# Altium integrated library TI Amplifiers and Linear Operational Amplifier Precision Amplifier Part Two.IntLib: 2300 symbols (part 48 of 81)
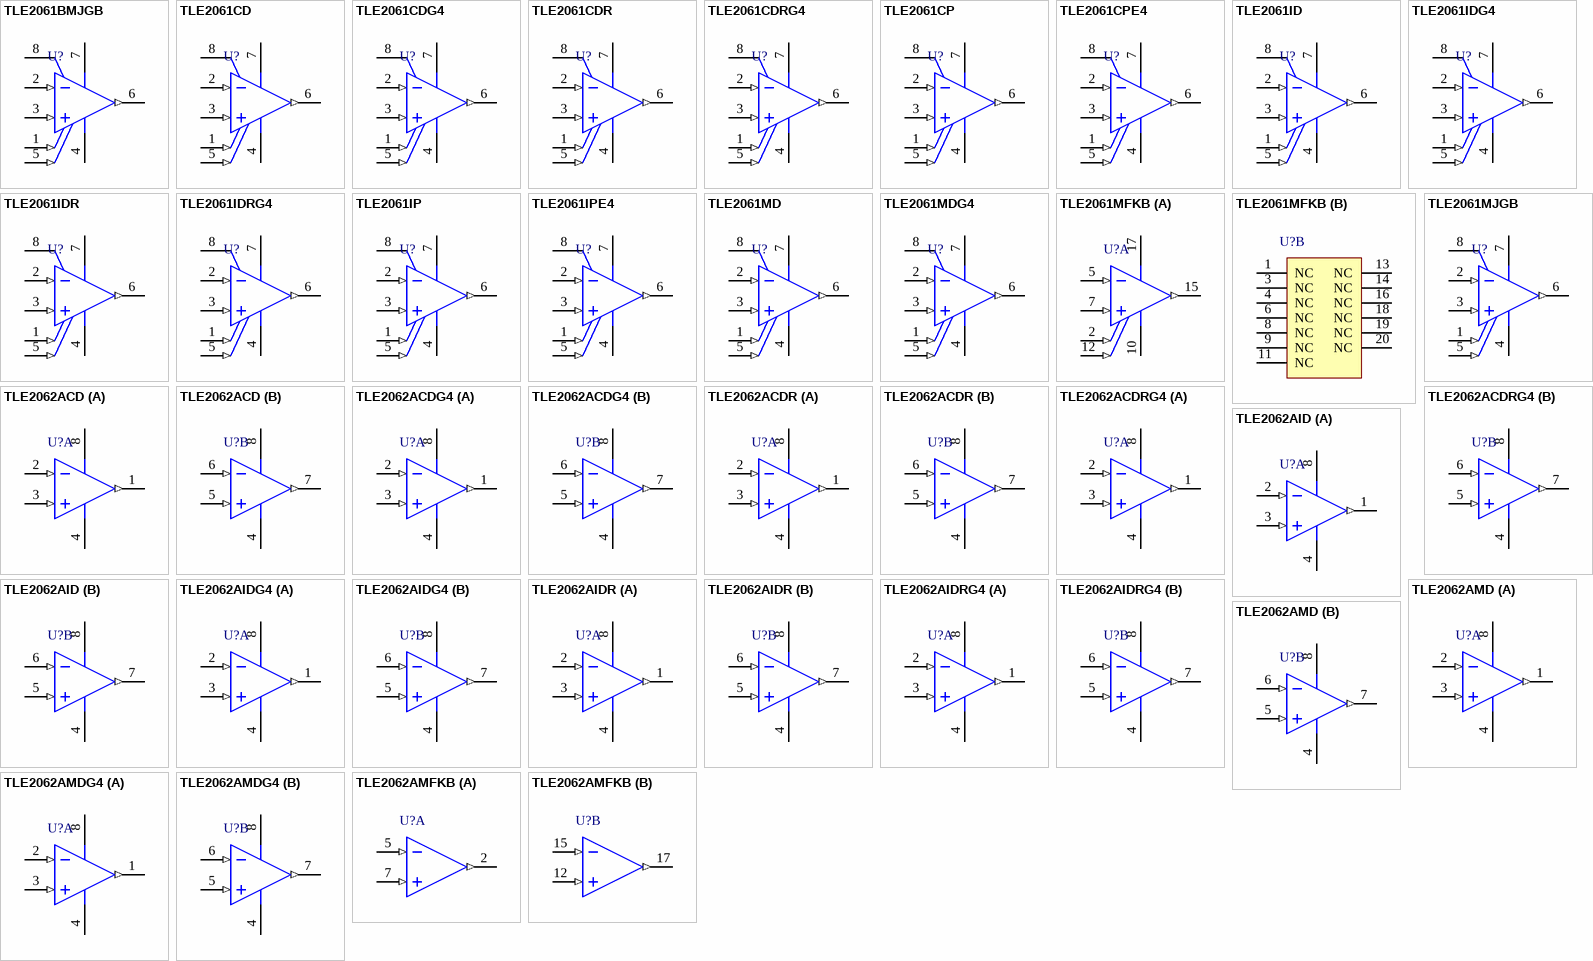
[diagram p183: symbols TLE2061BMJGB to TLE2062AMFKB]

## TLE2061IP
designator U?
JFET-Input High-Output-Drive uPower Operational Amplifier, 7 to 36 V, -40 to 85 degC, 8-pin DIP (P8), Pb-Free (RoHS); Manufacturer: Texas Instruments; PartNumber: TLE2061IP; CMRR(Min)(dB): 65; GBW(Typ)(MHz): 1.8; IIB(Max)(pA): 4000; Iq per channel(Max)(mA): 0.325; Number of Channels: 1; Offset Drift(Typ)(uV/C): 6; Packing: TUBE; Rating: Catalog; Slew Rate(Typ)(V/us): 3.4; Sub Family: High Supply Voltage Amplifier (>=30V), Low Power Amp (<=500uA), Precision Amplifier; Total Supply Voltage(Max)(+5V is 5, +/-5V is 10): 36; Total Supply Voltage(Min)(+5V is 5, +/-5V is 10): 7; Vio (25C)(Max)(mV): 3.1; DatasheetVersion: SLOS193B; PackageVersion: 4040082/E, 04/2010; PackageReference: P8; PackageDescription: 8-Pin Plastic In-Line, Body 9.59 x 6.35 mm, Pitch 2.54 mm; Supplier 1: Digi-Key; Supplier Part Number 1: 296-34391-5-ND; Supplier 2: Farnell; Supplier Part Number 2: 1102947; Supplier 3: Newark; Supplier Part Number 3: 24M8306; Supplier 4: Mouser; Supplier Part Number 4: 595-TLE2061IP; Eco-Plan: Pb-Free (RoHS); Mounting Technology: Through Hole; Code_JEDEC: MS-001; ComponentLink1Description: Manufacturer URL; ComponentLink1URL: http://www.ti.com/; ComponentLink2Description: Datasheet; ComponentLink2URL: http://www.ti.com/lit/ds/symlink/tle2061.pdf; ComponentLink3Description: Package Specification; ComponentLink3URL: http://www.ti.com/litv/pdf/mpdi001b
footprint TI-P8 (DIP, 8-Leads, Body 9.59x6.35mm, Pitch 2.54mm)
pins: 1 OFFSET N1 (in), 2 IN- (in), 3 IN+ (in), 4 VCC- (power), 5 OFFSET N2 (in), 6 OUT (out), 7 VCC+ (power), 8 NC

## TLE2061IPE4
designator U?
JFET-Input High-Output-Drive uPower Operational Amplifier, 7 to 36 V, -40 to 85 degC, 8-pin DIP (P8), Pb-Free (RoHS); Manufacturer: Texas Instruments; PartNumber: TLE2061IPE4; CMRR(Min)(dB): 65; GBW(Typ)(MHz): 1.8; IIB(Max)(pA): 4000; Iq per channel(Max)(mA): 0.325; Number of Channels: 1; Offset Drift(Typ)(uV/C): 6; Packing: TUBE; Rating: Catalog; Slew Rate(Typ)(V/us): 3.4; Sub Family: High Supply Voltage Amplifier (>=30V), Low Power Amp (<=500uA), Precision Amplifier; Total Supply Voltage(Max)(+5V is 5, +/-5V is 10): 36; Total Supply Voltage(Min)(+5V is 5, +/-5V is 10): 7; Vio (25C)(Max)(mV): 3.1; DatasheetVersion: SLOS193B; PackageVersion: 4040082/E, 04/2010; PackageReference: P8; PackageDescription: 8-Pin Plastic In-Line, Body 9.59 x 6.35 mm, Pitch 2.54 mm; Supplier 1: Digi-Key; Supplier Part Number 1: TLE2061IPE4-ND; Supplier 2: Mouser; Supplier Part Number 2: 595-TLE2061IPE4; Eco-Plan: Pb-Free (RoHS); Mounting Technology: Through Hole; Code_JEDEC: MS-001; ComponentLink1Description: Manufacturer URL; ComponentLink1URL: http://www.ti.com/; ComponentLink2Description: Datasheet; ComponentLink2URL: http://www.ti.com/lit/ds/symlink/tle2061.pdf; ComponentLink3Description: Package Specification; ComponentLink3URL: http://www.ti.com/litv/pdf/mpdi001b
footprint TI-P8 (DIP, 8-Leads, Body 9.59x6.35mm, Pitch 2.54mm)
pins: 1 OFFSET N1 (in), 2 IN- (in), 3 IN+ (in), 4 VCC- (power), 5 OFFSET N2 (in), 6 OUT (out), 7 VCC+ (power), 8 NC

## TLE2061MD
designator U?
JFET-Input Low Power High Drive Single Operational Amplifier, 7 to 36 V, -55 to 125 degC, 8-pin SOIC (D8), Green (RoHS & no Sb/Br); Manufacturer: Texas Instruments; PartNumber: TLE2061MD; CMRR(Min)(dB): 65; GBW(Typ)(MHz): 1.8; IIB(Max)(pA): 30000; Iq per channel(Max)(mA): 0.325; Number of Channels: 1; Offset Drift(Typ)(uV/C): 6; Packing: SMALL T&R; Rating: Military; Slew Rate(Typ)(V/us): 3.4; Sub Family: High Supply Voltage Amplifier (>=30V), Low Power Amp (<=500uA), Precision Amplifier; Total Supply Voltage(Max)(+5V is 5, +/-5V is 10): 36; Total Supply Voltage(Min)(+5V is 5, +/-5V is 10): 7; Vio (25C)(Max)(mV): 3.1; DatasheetVersion: SLOS193B; PackageVersion: 4040047-3/M, 06/2011; PackageReference: D8; PackageDescription: 8-Pin Plastic Small Outline, Body 4.9 x 3.9 mm, Pitch 1.27 mm; Supplier 1: Digi-Key; Supplier Part Number 1: 296-10395-5-ND; Supplier 2: Newark; Supplier Part Number 2: 76C7620; Supplier 3: Mouser; Supplier Part Number 3: 595-TLE2061MD; Eco-Plan: Green (RoHS & no Sb/Br); Mounting Technology: Surface Mount; Code_JEDEC: MS-012; ComponentLink1Description: Manufacturer URL; ComponentLink1URL: http://www.ti.com/; ComponentLink2Description: Datasheet; ComponentLink2URL: http://www.ti.com/lit/ds/symlink/tle2061m.pdf; ComponentLink3Description: Package Specification; ComponentLink3URL: http://www.ti.com/litv/pdf/msoi002j
footprint TI-D8_N (SOIC, 8-Leads, Body 4.9x3.9mm, Pitch 1.27mm, IPC Medium Density)
footprint TI-D8_L (SOIC, 8-Leads, Body 4.9x3.9mm, Pitch 1.27mm, IPC High Density)
footprint TI-D8_M (SOIC, 8-Leads, Body 4.9x3.9mm, Pitch 1.27mm, IPC Low Density)
pins: 1 OFFSET N1 (in), 2 IN- (in), 3 IN+ (in), 4 VCC- (power), 5 OFFSET N2 (in), 6 OUT (out), 7 VCC+ (power), 8 NC

## TLE2061MDG4
designator U?
JFET-Input Low Power High Drive Single Operational Amplifier, 7 to 36 V, -55 to 125 degC, 8-pin SOIC (D8), Green (RoHS & no Sb/Br); Manufacturer: Texas Instruments; PartNumber: TLE2061MDG4; CMRR(Min)(dB): 65; GBW(Typ)(MHz): 1.8; IIB(Max)(pA): 30000; Iq per channel(Max)(mA): 0.325; Number of Channels: 1; Offset Drift(Typ)(uV/C): 6; Packing: SMALL T&R; Rating: Military; Slew Rate(Typ)(V/us): 3.4; Sub Family: High Supply Voltage Amplifier (>=30V), Low Power Amp (<=500uA), Precision Amplifier; Total Supply Voltage(Max)(+5V is 5, +/-5V is 10): 36; Total Supply Voltage(Min)(+5V is 5, +/-5V is 10): 7; Vio (25C)(Max)(mV): 3.1; DatasheetVersion: SLOS193B; PackageVersion: 4040047-3/M, 06/2011; PackageReference: D8; PackageDescription: 8-Pin Plastic Small Outline, Body 4.9 x 3.9 mm, Pitch 1.27 mm; Supplier 1: Digi-Key; Supplier Part Number 1: TLE2061MDG4-ND; Supplier 2: Newark; Supplier Part Number 2: 50M9025; Supplier 3: Mouser; Supplier Part Number 3: 595-TLE2061MDG4; Eco-Plan: Green (RoHS & no Sb/Br); Mounting Technology: Surface Mount; Code_JEDEC: MS-012; ComponentLink1Description: Manufacturer URL; ComponentLink1URL: http://www.ti.com/; ComponentLink2Description: Datasheet; ComponentLink2URL: http://www.ti.com/lit/ds/symlink/tle2061m.pdf; ComponentLink3Description: Package Specification; ComponentLink3URL: http://www.ti.com/litv/pdf/msoi002j
footprint TI-D8_N (SOIC, 8-Leads, Body 4.9x3.9mm, Pitch 1.27mm, IPC Medium Density)
footprint TI-D8_L (SOIC, 8-Leads, Body 4.9x3.9mm, Pitch 1.27mm, IPC High Density)
footprint TI-D8_M (SOIC, 8-Leads, Body 4.9x3.9mm, Pitch 1.27mm, IPC Low Density)
pins: 1 OFFSET N1 (in), 2 IN- (in), 3 IN+ (in), 4 VCC- (power), 5 OFFSET N2 (in), 6 OUT (out), 7 VCC+ (power), 8 NC

## TLE2061MFKB
designator U?
JFET-Input Low Power High Drive Single Operational Amplifier, 7 to 36 V, -55 to 125 degC, 20-pin LCC (FK20); Manufacturer: Texas Instruments; PartNumber: TLE2061MFKB; CMRR(Min)(dB): 65; GBW(Typ)(MHz): 1.8; IIB(Max)(pA): 30000; Iq per channel(Max)(mA): 0.325; Number of Channels: 1; Offset Drift(Typ)(uV/C): 6; Packing: TUBE; Rating: Military; Slew Rate(Typ)(V/us): 3.4; Sub Family: High Supply Voltage Amplifier (>=30V), Low Power Amp (<=500uA), Precision Amplifier; Total Supply Voltage(Max)(+5V is 5, +/-5V is 10): 36; Total Supply Voltage(Min)(+5V is 5, +/-5V is 10): 7; Vio (25C)(Max)(mV): 3.1; DatasheetVersion: SLOS193B; PackageVersion: 4040140/D, 01/2011; PackageReference: FK20; PackageDescription: 20-Pin Ceramic, Metal Chip Carrier, Body 8.89 x 8.89 mm, Pitch 1.27 mm; Mounting Technology: Surface Mount; Code_JEDEC: MS-004; ComponentLink1Description: Manufacturer URL; ComponentLink1URL: http://www.ti.com/; ComponentLink2Description: Datasheet; ComponentLink2URL: http://www.ti.com/lit/ds/symlink/tle2061m.pdf; ComponentLink3Description: Package Specification; ComponentLink3URL: http://www.ti.com/litv/pdf/mlcc006d
footprint TI-FK20_N (Leadless Chip Carrier, 20-Leads, Body 8.9x8.9mm, Pitch 1.27mm, IPC Medium Density)
footprint TI-FK20_L (Leadless Chip Carrier, 20-Leads, Body 8.9x8.9mm, Pitch 1.27mm, IPC High Density)
footprint TI-FK20_M (Leadless Chip Carrier, 20-Leads, Body 8.9x8.9mm, Pitch 1.27mm, IPC Low Density)
part A pins: 2 OFFSET N1 (in), 5 IN- (in), 7 IN+ (in), 10 VCC- (power), 12 OFFSET N2 (in), 15 OUT (out), 17 VCC+ (power)
part B pins: 1 NC, 3 NC, 4 NC, 6 NC, 8 NC, 9 NC, 11 NC, 13 NC, 14 NC, 16 NC, 18 NC, 19 NC, 20 NC

## TLE2061MJGB
designator U?
JFET-Input Low Power High Drive Single Operational Amplifier, 7 to 36 V, -55 to 125 degC, 8-pin DIP (JG8); Manufacturer: Texas Instruments; PartNumber: TLE2061MJGB; CMRR(Min)(dB): 65; GBW(Typ)(MHz): 1.8; IIB(Max)(pA): 30000; Iq per channel(Max)(mA): 0.325; Number of Channels: 1; Offset Drift(Typ)(uV/C): 6; Packing: TUBE; Rating: Military; Slew Rate(Typ)(V/us): 3.4; Sub Family: High Supply Voltage Amplifier (>=30V), Low Power Amp (<=500uA), Precision Amplifier; Total Supply Voltage(Max)(+5V is 5, +/-5V is 10): 36; Total Supply Voltage(Min)(+5V is 5, +/-5V is 10): 7; Vio (25C)(Max)(mV): 3.1; DatasheetVersion: SLOS193B; PackageVersion: 4040107/C, 08/1996; PackageReference: JG8; PackageDescription: 8-Pin Ceramic, Glass In-Line, Body 9.58 x 6.665 mm, Pitch 2.54 mm; Mounting Technology: Through Hole; ComponentLink1Description: Manufacturer URL; ComponentLink1URL: http://www.ti.com/; ComponentLink2Description: Datasheet; ComponentLink2URL: http://www.ti.com/lit/ds/symlink/tle2061m.pdf; ComponentLink3Description: Package Specification; ComponentLink3URL: http://www.ti.com/litv/pdf/mcer001a
footprint TI-JG8 (DIP, 8-Leads, Body 10.15x7.1mm, Pitch 2.54mm)
pins: 1 OFFSET N1 (in), 2 IN- (in), 3 IN+ (in), 4 VCC- (power), 5 OFFSET N2 (in), 6 OUT (out), 7 VCC+ (power), 8 NC

## TLE2062ACD
designator U?
Excalibur JFET-Input High-Output-Drive uPower Dual Operational Amplifier, 7 to 36 V, 0 to 70 degC, 8-pin SOIC (D8), Green (RoHS & no Sb/Br); Manufacturer: Texas Instruments; PartNumber: TLE2062ACD; CMRR(Min)(dB): 65; GBW(Typ)(MHz): 1.8; IIB(Max)(pA): 2000; Iq per channel(Max)(mA): 0.31; Number of Channels: 2; Offset Drift(Typ)(uV/C): 6; Packing: TUBE; Rating: Catalog; Slew Rate(Typ)(V/us): 3.4; Sub Family: High Supply Voltage Amplifier (>=30V), Low Power Amp (<=500uA), Precision Amplifier; Total Supply Voltage(Max)(+5V is 5, +/-5V is 10): 36; Total Supply Voltage(Min)(+5V is 5, +/-5V is 10): 7; Vio (25C)(Max)(mV): 4; DatasheetVersion: SLOS193B; PackageVersion: 4040047-3/M, 06/2011; PackageReference: D8; PackageDescription: 8-Pin Plastic Small Outline, Body 4.9 x 3.9 mm, Pitch 1.27 mm; Supplier 1: Digi-Key; Supplier Part Number 1: 296-10396-5-ND; Supplier 2: Newark; Supplier Part Number 2: 67K1267; Supplier 3: Mouser; Supplier Part Number 3: 595-TLE2062ACD; Eco-Plan: Green (RoHS & no Sb/Br); Mounting Technology: Surface Mount; Code_JEDEC: MS-012; ComponentLink1Description: Manufacturer URL; ComponentLink1URL: http://www.ti.com/; ComponentLink2Description: Datasheet; ComponentLink2URL: http://www.ti.com/lit/ds/symlink/tle2062a.pdf; ComponentLink3Description: Package Specification; ComponentLink3URL: http://www.ti.com/litv/pdf/msoi002j
footprint TI-D8_N (SOIC, 8-Leads, Body 4.9x3.9mm, Pitch 1.27mm, IPC Medium Density)
footprint TI-D8_L (SOIC, 8-Leads, Body 4.9x3.9mm, Pitch 1.27mm, IPC High Density)
footprint TI-D8_M (SOIC, 8-Leads, Body 4.9x3.9mm, Pitch 1.27mm, IPC Low Density)
pins on every part: 4 VCC- (power), 8 VCC+ (power)
part A pins: 1 OUT1 (out), 2 IN1- (in), 3 IN1+ (in)
part B pins: 5 IN2+ (in), 6 IN2- (in), 7 OUT2 (out)

## TLE2062ACDG4
designator U?
Excalibur JFET-Input High-Output-Drive uPower Dual Operational Amplifier, 7 to 36 V, 0 to 70 degC, 8-pin SOIC (D8), Green (RoHS & no Sb/Br); Manufacturer: Texas Instruments; PartNumber: TLE2062ACDG4; CMRR(Min)(dB): 65; GBW(Typ)(MHz): 1.8; IIB(Max)(pA): 2000; Iq per channel(Max)(mA): 0.31; Number of Channels: 2; Offset Drift(Typ)(uV/C): 6; Packing: TUBE; Rating: Catalog; Slew Rate(Typ)(V/us): 3.4; Sub Family: High Supply Voltage Amplifier (>=30V), Low Power Amp (<=500uA), Precision Amplifier; Total Supply Voltage(Max)(+5V is 5, +/-5V is 10): 36; Total Supply Voltage(Min)(+5V is 5, +/-5V is 10): 7; Vio (25C)(Max)(mV): 4; DatasheetVersion: SLOS193B; PackageVersion: 4040047-3/M, 06/2011; PackageReference: D8; PackageDescription: 8-Pin Plastic Small Outline, Body 4.9 x 3.9 mm, Pitch 1.27 mm; Supplier 1: Digi-Key; Supplier Part Number 1: TLE2062ACDG4-ND; Supplier 2: Farnell; Supplier Part Number 2: 1234963; Supplier 3: Newark; Supplier Part Number 3: 13M3163; Supplier 4: Mouser; Supplier Part Number 4: 595-TLE2062ACDG4; Eco-Plan: Green (RoHS & no Sb/Br); Mounting Technology: Surface Mount; Code_JEDEC: MS-012; ComponentLink1Description: Manufacturer URL; ComponentLink1URL: http://www.ti.com/; ComponentLink2Description: Datasheet; ComponentLink2URL: http://www.ti.com/lit/ds/symlink/tle2062a.pdf; ComponentLink3Description: Package Specification; ComponentLink3URL: http://www.ti.com/litv/pdf/msoi002j
footprint TI-D8_N (SOIC, 8-Leads, Body 4.9x3.9mm, Pitch 1.27mm, IPC Medium Density)
footprint TI-D8_L (SOIC, 8-Leads, Body 4.9x3.9mm, Pitch 1.27mm, IPC High Density)
footprint TI-D8_M (SOIC, 8-Leads, Body 4.9x3.9mm, Pitch 1.27mm, IPC Low Density)
pins on every part: 4 VCC- (power), 8 VCC+ (power)
part A pins: 1 OUT1 (out), 2 IN1- (in), 3 IN1+ (in)
part B pins: 5 IN2+ (in), 6 IN2- (in), 7 OUT2 (out)

## TLE2062ACDR
designator U?
Excalibur JFET-Input High-Output-Drive uPower Dual Operational Amplifier, 7 to 36 V, 0 to 70 degC, 8-pin SOIC (D8), Green (RoHS & no Sb/Br); Manufacturer: Texas Instruments; PartNumber: TLE2062ACDR; CMRR(Min)(dB): 65; GBW(Typ)(MHz): 1.8; IIB(Max)(pA): 2000; Iq per channel(Max)(mA): 0.31; Number of Channels: 2; Offset Drift(Typ)(uV/C): 6; Packing: LARGE T&R; Rating: Catalog; Slew Rate(Typ)(V/us): 3.4; Sub Family: High Supply Voltage Amplifier (>=30V), Low Power Amp (<=500uA), Precision Amplifier; Total Supply Voltage(Max)(+5V is 5, +/-5V is 10): 36; Total Supply Voltage(Min)(+5V is 5, +/-5V is 10): 7; Vio (25C)(Max)(mV): 4; DatasheetVersion: SLOS193B; PackageVersion: 4040047-3/M, 06/2011; PackageReference: D8; PackageDescription: 8-Pin Plastic Small Outline, Body 4.9 x 3.9 mm, Pitch 1.27 mm; Supplier 1: Digi-Key; Supplier Part Number 1: TLE2062ACDR-ND; Supplier 2: Mouser; Supplier Part Number 2: 595-TLE2062ACDR; Eco-Plan: Green (RoHS & no Sb/Br); Mounting Technology: Surface Mount; Code_JEDEC: MS-012; ComponentLink1Description: Manufacturer URL; ComponentLink1URL: http://www.ti.com/; ComponentLink2Description: Datasheet; ComponentLink2URL: http://www.ti.com/lit/ds/symlink/tle2062a.pdf; ComponentLink3Description: Package Specification; ComponentLink3URL: http://www.ti.com/litv/pdf/msoi002j
footprint TI-D8_N (SOIC, 8-Leads, Body 4.9x3.9mm, Pitch 1.27mm, IPC Medium Density)
footprint TI-D8_L (SOIC, 8-Leads, Body 4.9x3.9mm, Pitch 1.27mm, IPC High Density)
footprint TI-D8_M (SOIC, 8-Leads, Body 4.9x3.9mm, Pitch 1.27mm, IPC Low Density)
pins on every part: 4 VCC- (power), 8 VCC+ (power)
part A pins: 1 OUT1 (out), 2 IN1- (in), 3 IN1+ (in)
part B pins: 5 IN2+ (in), 6 IN2- (in), 7 OUT2 (out)

## TLE2062ACDRG4
designator U?
Excalibur JFET-Input High-Output-Drive uPower Dual Operational Amplifier, 7 to 36 V, 0 to 70 degC, 8-pin SOIC (D8), Green (RoHS & no Sb/Br); Manufacturer: Texas Instruments; PartNumber: TLE2062ACDRG4; CMRR(Min)(dB): 65; GBW(Typ)(MHz): 1.8; IIB(Max)(pA): 2000; Iq per channel(Max)(mA): 0.31; Number of Channels: 2; Offset Drift(Typ)(uV/C): 6; Packing: LARGE T&R; Rating: Catalog; Slew Rate(Typ)(V/us): 3.4; Sub Family: High Supply Voltage Amplifier (>=30V), Low Power Amp (<=500uA), Precision Amplifier; Total Supply Voltage(Max)(+5V is 5, +/-5V is 10): 36; Total Supply Voltage(Min)(+5V is 5, +/-5V is 10): 7; Vio (25C)(Max)(mV): 4; DatasheetVersion: SLOS193B; PackageVersion: 4040047-3/M, 06/2011; PackageReference: D8; PackageDescription: 8-Pin Plastic Small Outline, Body 4.9 x 3.9 mm, Pitch 1.27 mm; Supplier 1: Digi-Key; Supplier Part Number 1: TLE2062ACDRG4-ND; Supplier 2: Mouser; Supplier Part Number 2: 595-TLE2062ACDRG4; Eco-Plan: Green (RoHS & no Sb/Br); Mounting Technology: Surface Mount; Code_JEDEC: MS-012; ComponentLink1Description: Manufacturer URL; ComponentLink1URL: http://www.ti.com/; ComponentLink2Description: Datasheet; ComponentLink2URL: http://www.ti.com/lit/ds/symlink/tle2062a.pdf; ComponentLink3Description: Package Specification; ComponentLink3URL: http://www.ti.com/litv/pdf/msoi002j
footprint TI-D8_N (SOIC, 8-Leads, Body 4.9x3.9mm, Pitch 1.27mm, IPC Medium Density)
footprint TI-D8_L (SOIC, 8-Leads, Body 4.9x3.9mm, Pitch 1.27mm, IPC High Density)
footprint TI-D8_M (SOIC, 8-Leads, Body 4.9x3.9mm, Pitch 1.27mm, IPC Low Density)
pins on every part: 4 VCC- (power), 8 VCC+ (power)
part A pins: 1 OUT1 (out), 2 IN1- (in), 3 IN1+ (in)
part B pins: 5 IN2+ (in), 6 IN2- (in), 7 OUT2 (out)

## TLE2062AID
designator U?
Excalibur JFET-Input High-Output-Drive uPower Dual Operational Amplifier, 7 to 36 V, -40 to 85 degC, 8-pin SOIC (D8), Green (RoHS & no Sb/Br); Manufacturer: Texas Instruments; PartNumber: TLE2062AID; CMRR(Min)(dB): 65; GBW(Typ)(MHz): 1.8; IIB(Max)(pA): 4000; Iq per channel(Max)(mA): 0.31; Number of Channels: 2; Offset Drift(Typ)(uV/C): 6; Packing: TUBE; Rating: Catalog; Slew Rate(Typ)(V/us): 3.4; Sub Family: High Supply Voltage Amplifier (>=30V), Low Power Amp (<=500uA), Precision Amplifier; Total Supply Voltage(Max)(+5V is 5, +/-5V is 10): 36; Total Supply Voltage(Min)(+5V is 5, +/-5V is 10): 7; Vio (25C)(Max)(mV): 4; DatasheetVersion: SLOS193B; PackageVersion: 4040047-3/M, 06/2011; PackageReference: D8; PackageDescription: 8-Pin Plastic Small Outline, Body 4.9 x 3.9 mm, Pitch 1.27 mm; Supplier 1: Digi-Key; Supplier Part Number 1: 296-10397-5-ND; Supplier 2: Newark; Supplier Part Number 2: 01C6125; Supplier 3: Mouser; Supplier Part Number 3: 595-TLE2062AID; Eco-Plan: Green (RoHS & no Sb/Br); Mounting Technology: Surface Mount; Code_JEDEC: MS-012; ComponentLink1Description: Manufacturer URL; ComponentLink1URL: http://www.ti.com/; ComponentLink2Description: Datasheet; ComponentLink2URL: http://www.ti.com/lit/ds/symlink/tle2062a.pdf; ComponentLink3Description: Package Specification; ComponentLink3URL: http://www.ti.com/litv/pdf/msoi002j
footprint TI-D8_N (SOIC, 8-Leads, Body 4.9x3.9mm, Pitch 1.27mm, IPC Medium Density)
footprint TI-D8_L (SOIC, 8-Leads, Body 4.9x3.9mm, Pitch 1.27mm, IPC High Density)
footprint TI-D8_M (SOIC, 8-Leads, Body 4.9x3.9mm, Pitch 1.27mm, IPC Low Density)
pins on every part: 4 VCC- (power), 8 VCC+ (power)
part A pins: 1 OUT1 (out), 2 IN1- (in), 3 IN1+ (in)
part B pins: 5 IN2+ (in), 6 IN2- (in), 7 OUT2 (out)

## TLE2062AIDG4
designator U?
Excalibur JFET-Input High-Output-Drive uPower Dual Operational Amplifier, 7 to 36 V, -40 to 85 degC, 8-pin SOIC (D8), Green (RoHS & no Sb/Br); Manufacturer: Texas Instruments; PartNumber: TLE2062AIDG4; CMRR(Min)(dB): 65; GBW(Typ)(MHz): 1.8; IIB(Max)(pA): 4000; Iq per channel(Max)(mA): 0.31; Number of Channels: 2; Offset Drift(Typ)(uV/C): 6; Packing: TUBE; Rating: Catalog; Slew Rate(Typ)(V/us): 3.4; Sub Family: High Supply Voltage Amplifier (>=30V), Low Power Amp (<=500uA), Precision Amplifier; Total Supply Voltage(Max)(+5V is 5, +/-5V is 10): 36; Total Supply Voltage(Min)(+5V is 5, +/-5V is 10): 7; Vio (25C)(Max)(mV): 4; DatasheetVersion: SLOS193B; PackageVersion: 4040047-3/M, 06/2011; PackageReference: D8; PackageDescription: 8-Pin Plastic Small Outline, Body 4.9 x 3.9 mm, Pitch 1.27 mm; Supplier 1: Digi-Key; Supplier Part Number 1: TLE2062AIDG4-ND; Supplier 2: Mouser; Supplier Part Number 2: 595-TLE2062AIDG4; Eco-Plan: Green (RoHS & no Sb/Br); Mounting Technology: Surface Mount; Code_JEDEC: MS-012; ComponentLink1Description: Manufacturer URL; ComponentLink1URL: http://www.ti.com/; ComponentLink2Description: Datasheet; ComponentLink2URL: http://www.ti.com/lit/ds/symlink/tle2062a.pdf; ComponentLink3Description: Package Specification; ComponentLink3URL: http://www.ti.com/litv/pdf/msoi002j
footprint TI-D8_N (SOIC, 8-Leads, Body 4.9x3.9mm, Pitch 1.27mm, IPC Medium Density)
footprint TI-D8_L (SOIC, 8-Leads, Body 4.9x3.9mm, Pitch 1.27mm, IPC High Density)
footprint TI-D8_M (SOIC, 8-Leads, Body 4.9x3.9mm, Pitch 1.27mm, IPC Low Density)
pins on every part: 4 VCC- (power), 8 VCC+ (power)
part A pins: 1 OUT1 (out), 2 IN1- (in), 3 IN1+ (in)
part B pins: 5 IN2+ (in), 6 IN2- (in), 7 OUT2 (out)

## TLE2062AIDR
designator U?
Excalibur JFET-Input High-Output-Drive uPower Dual Operational Amplifier, 7 to 36 V, -40 to 85 degC, 8-pin SOIC (D8), Green (RoHS & no Sb/Br); Manufacturer: Texas Instruments; PartNumber: TLE2062AIDR; CMRR(Min)(dB): 65; GBW(Typ)(MHz): 1.8; IIB(Max)(pA): 4000; Iq per channel(Max)(mA): 0.31; Number of Channels: 2; Offset Drift(Typ)(uV/C): 6; Packing: LARGE T&R; Rating: Catalog; Slew Rate(Typ)(V/us): 3.4; Sub Family: High Supply Voltage Amplifier (>=30V), Low Power Amp (<=500uA), Precision Amplifier; Total Supply Voltage(Max)(+5V is 5, +/-5V is 10): 36; Total Supply Voltage(Min)(+5V is 5, +/-5V is 10): 7; Vio (25C)(Max)(mV): 4; DatasheetVersion: SLOS193B; PackageVersion: 4040047-3/M, 06/2011; PackageReference: D8; PackageDescription: 8-Pin Plastic Small Outline, Body 4.9 x 3.9 mm, Pitch 1.27 mm; Supplier 1: Digi-Key; Supplier Part Number 1: TLE2062AIDR-ND; Supplier 2: Mouser; Supplier Part Number 2: 595-TLE2062AIDR; Eco-Plan: Green (RoHS & no Sb/Br); Mounting Technology: Surface Mount; Code_JEDEC: MS-012; ComponentLink1Description: Manufacturer URL; ComponentLink1URL: http://www.ti.com/; ComponentLink2Description: Datasheet; ComponentLink2URL: http://www.ti.com/lit/ds/symlink/tle2062a.pdf; ComponentLink3Description: Package Specification; ComponentLink3URL: http://www.ti.com/litv/pdf/msoi002j
footprint TI-D8_N (SOIC, 8-Leads, Body 4.9x3.9mm, Pitch 1.27mm, IPC Medium Density)
footprint TI-D8_L (SOIC, 8-Leads, Body 4.9x3.9mm, Pitch 1.27mm, IPC High Density)
footprint TI-D8_M (SOIC, 8-Leads, Body 4.9x3.9mm, Pitch 1.27mm, IPC Low Density)
pins on every part: 4 VCC- (power), 8 VCC+ (power)
part A pins: 1 OUT1 (out), 2 IN1- (in), 3 IN1+ (in)
part B pins: 5 IN2+ (in), 6 IN2- (in), 7 OUT2 (out)

## TLE2062AIDRG4
designator U?
Excalibur JFET-Input High-Output-Drive uPower Dual Operational Amplifier, 7 to 36 V, -40 to 85 degC, 8-pin SOIC (D8), Green (RoHS & no Sb/Br); Manufacturer: Texas Instruments; PartNumber: TLE2062AIDRG4; CMRR(Min)(dB): 65; GBW(Typ)(MHz): 1.8; IIB(Max)(pA): 4000; Iq per channel(Max)(mA): 0.31; Number of Channels: 2; Offset Drift(Typ)(uV/C): 6; Packing: LARGE T&R; Rating: Catalog; Slew Rate(Typ)(V/us): 3.4; Sub Family: High Supply Voltage Amplifier (>=30V), Low Power Amp (<=500uA), Precision Amplifier; Total Supply Voltage(Max)(+5V is 5, +/-5V is 10): 36; Total Supply Voltage(Min)(+5V is 5, +/-5V is 10): 7; Vio (25C)(Max)(mV): 4; DatasheetVersion: SLOS193B; PackageVersion: 4040047-3/M, 06/2011; PackageReference: D8; PackageDescription: 8-Pin Plastic Small Outline, Body 4.9 x 3.9 mm, Pitch 1.27 mm; Supplier 1: Digi-Key; Supplier Part Number 1: TLE2062AIDRG4-ND; Supplier 2: Mouser; Supplier Part Number 2: 595-TLE2062AIDRG4; Eco-Plan: Green (RoHS & no Sb/Br); Mounting Technology: Surface Mount; Code_JEDEC: MS-012; ComponentLink1Description: Manufacturer URL; ComponentLink1URL: http://www.ti.com/; ComponentLink2Description: Datasheet; ComponentLink2URL: http://www.ti.com/lit/ds/symlink/tle2062a.pdf; ComponentLink3Description: Package Specification; ComponentLink3URL: http://www.ti.com/litv/pdf/msoi002j
footprint TI-D8_N (SOIC, 8-Leads, Body 4.9x3.9mm, Pitch 1.27mm, IPC Medium Density)
footprint TI-D8_L (SOIC, 8-Leads, Body 4.9x3.9mm, Pitch 1.27mm, IPC High Density)
footprint TI-D8_M (SOIC, 8-Leads, Body 4.9x3.9mm, Pitch 1.27mm, IPC Low Density)
pins on every part: 4 VCC- (power), 8 VCC+ (power)
part A pins: 1 OUT1 (out), 2 IN1- (in), 3 IN1+ (in)
part B pins: 5 IN2+ (in), 6 IN2- (in), 7 OUT2 (out)

## TLE2062AMD
designator U?
JFET-Input Low Power High Drive Dual Operational Amplifier, 7 to 36 V, -55 to 125 degC, 8-pin SOIC (D8), Green (RoHS & no Sb/Br); Manufacturer: Texas Instruments; PartNumber: TLE2062AMD; CMRR(Min)(dB): 65; GBW(Typ)(MHz): 1.8; IIB(Max)(pA): 30000; Iq per channel(Max)(mA): 0.31; Number of Channels: 2; Offset Drift(Typ)(uV/C): 6; Packing: SMALL T&R; Rating: Military; Slew Rate(Typ)(V/us): 3.4; Sub Family: High Supply Voltage Amplifier (>=30V), Low Power Amp (<=500uA), Precision Amplifier; Total Supply Voltage(Max)(+5V is 5, +/-5V is 10): 36; Total Supply Voltage(Min)(+5V is 5, +/-5V is 10): 7; Vio (25C)(Max)(mV): 4; DatasheetVersion: SLOS193B; PackageVersion: 4040047-3/M, 06/2011; PackageReference: D8; PackageDescription: 8-Pin Plastic Small Outline, Body 4.9 x 3.9 mm, Pitch 1.27 mm; Supplier 1: Digi-Key; Supplier Part Number 1: 296-10399-5-ND; Supplier 2: Newark; Supplier Part Number 2: 34C7756; Supplier 3: Mouser; Supplier Part Number 3: 595-TLE2062AMD; Eco-Plan: Green (RoHS & no Sb/Br); Mounting Technology: Surface Mount; Code_JEDEC: MS-012; ComponentLink1Description: Manufacturer URL; ComponentLink1URL: http://www.ti.com/; ComponentLink2Description: Datasheet; ComponentLink2URL: http://www.ti.com/lit/ds/symlink/tle2062am.pdf; ComponentLink3Description: Package Specification; ComponentLink3URL: http://www.ti.com/litv/pdf/msoi002j
footprint TI-D8_N (SOIC, 8-Leads, Body 4.9x3.9mm, Pitch 1.27mm, IPC Medium Density)
footprint TI-D8_L (SOIC, 8-Leads, Body 4.9x3.9mm, Pitch 1.27mm, IPC High Density)
footprint TI-D8_M (SOIC, 8-Leads, Body 4.9x3.9mm, Pitch 1.27mm, IPC Low Density)
pins on every part: 4 VCC- (power), 8 VCC+ (power)
part A pins: 1 OUT1 (out), 2 IN1- (in), 3 IN1+ (in)
part B pins: 5 IN2+ (in), 6 IN2- (in), 7 OUT2 (out)

## TLE2062AMDG4
designator U?
JFET-Input Low Power High Drive Dual Operational Amplifier, 7 to 36 V, -55 to 125 degC, 8-pin SOIC (D8), Green (RoHS & no Sb/Br); Manufacturer: Texas Instruments; PartNumber: TLE2062AMDG4; CMRR(Min)(dB): 65; GBW(Typ)(MHz): 1.8; IIB(Max)(pA): 30000; Iq per channel(Max)(mA): 0.31; Number of Channels: 2; Offset Drift(Typ)(uV/C): 6; Packing: SMALL T&R; Rating: Military; Slew Rate(Typ)(V/us): 3.4; Sub Family: High Supply Voltage Amplifier (>=30V), Low Power Amp (<=500uA), Precision Amplifier; Total Supply Voltage(Max)(+5V is 5, +/-5V is 10): 36; Total Supply Voltage(Min)(+5V is 5, +/-5V is 10): 7; Vio (25C)(Max)(mV): 4; DatasheetVersion: SLOS193B; PackageVersion: 4040047-3/M, 06/2011; PackageReference: D8; PackageDescription: 8-Pin Plastic Small Outline, Body 4.9 x 3.9 mm, Pitch 1.27 mm; Supplier 1: Digi-Key; Supplier Part Number 1: TLE2062AMDG4-ND; Supplier 2: Newark; Supplier Part Number 2: 50M9026; Supplier 3: Mouser; Supplier Part Number 3: 595-TLE2062AMDG4; Eco-Plan: Green (RoHS & no Sb/Br); Mounting Technology: Surface Mount; Code_JEDEC: MS-012; ComponentLink1Description: Manufacturer URL; ComponentLink1URL: http://www.ti.com/; ComponentLink2Description: Datasheet; ComponentLink2URL: http://www.ti.com/lit/ds/symlink/tle2062am.pdf; ComponentLink3Description: Package Specification; ComponentLink3URL: http://www.ti.com/litv/pdf/msoi002j
footprint TI-D8_N (SOIC, 8-Leads, Body 4.9x3.9mm, Pitch 1.27mm, IPC Medium Density)
footprint TI-D8_L (SOIC, 8-Leads, Body 4.9x3.9mm, Pitch 1.27mm, IPC High Density)
footprint TI-D8_M (SOIC, 8-Leads, Body 4.9x3.9mm, Pitch 1.27mm, IPC Low Density)
pins on every part: 4 VCC- (power), 8 VCC+ (power)
part A pins: 1 OUT1 (out), 2 IN1- (in), 3 IN1+ (in)
part B pins: 5 IN2+ (in), 6 IN2- (in), 7 OUT2 (out)

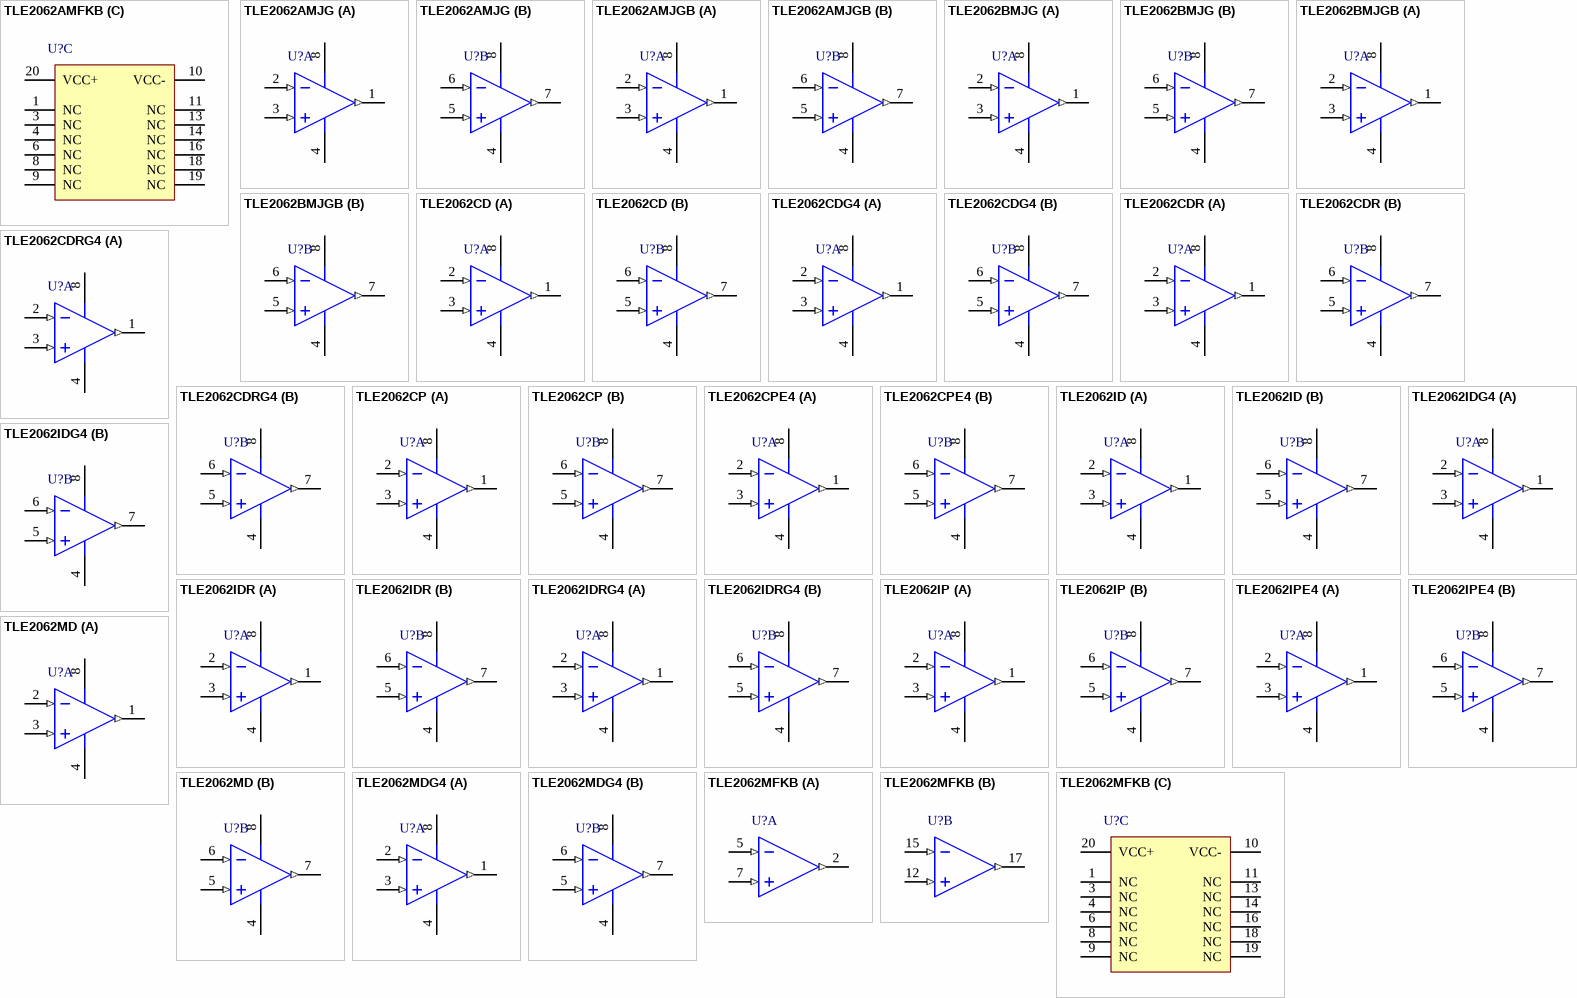
[diagram p81: symbols TLE2062AMFKB to TLE2062MFKB]

## TLE2062AMFKB
designator U?
JFET-Input Low Power High Drive Dual Operational Amplifier, 7 to 36 V, -55 to 125 degC, 20-pin LCC (FK20); Manufacturer: Texas Instruments; PartNumber: TLE2062AMFKB; CMRR(Min)(dB): 65; GBW(Typ)(MHz): 1.8; IIB(Max)(pA): 30000; Iq per channel(Max)(mA): 0.31; Number of Channels: 2; Offset Drift(Typ)(uV/C): 6; Packing: TUBE; Rating: Military; Slew Rate(Typ)(V/us): 3.4; Sub Family: High Supply Voltage Amplifier (>=30V), Low Power Amp (<=500uA), Precision Amplifier; Total Supply Voltage(Max)(+5V is 5, +/-5V is 10): 36; Total Supply Voltage(Min)(+5V is 5, +/-5V is 10): 7; Vio (25C)(Max)(mV): 4; DatasheetVersion: SLOS193B; PackageVersion: 4040140/D, 01/2011; PackageReference: FK20; PackageDescription: 20-Pin Ceramic, Metal Chip Carrier, Body 8.89 x 8.89 mm, Pitch 1.27 mm; Mounting Technology: Surface Mount; Code_JEDEC: MS-004; ComponentLink1Description: Manufacturer URL; ComponentLink1URL: http://www.ti.com/; ComponentLink2Description: Datasheet; ComponentLink2URL: http://www.ti.com/lit/ds/symlink/tle2062am.pdf; ComponentLink3Description: Package Specification; ComponentLink3URL: http://www.ti.com/litv/pdf/mlcc006d
footprint TI-FK20_N (Leadless Chip Carrier, 20-Leads, Body 8.9x8.9mm, Pitch 1.27mm, IPC Medium Density)
footprint TI-FK20_L (Leadless Chip Carrier, 20-Leads, Body 8.9x8.9mm, Pitch 1.27mm, IPC High Density)
footprint TI-FK20_M (Leadless Chip Carrier, 20-Leads, Body 8.9x8.9mm, Pitch 1.27mm, IPC Low Density)
part A pins: 2 OUT1 (out), 5 IN1- (in), 7 IN1+ (in)
part B pins: 12 IN2+ (in), 15 IN2- (in), 17 OUT2 (out)
part C pins: 1 NC, 3 NC, 4 NC, 6 NC, 8 NC, 9 NC, 10 VCC- (power), 11 NC, 13 NC, 14 NC, 16 NC, 18 NC, 19 NC, 20 VCC+ (power)

## TLE2062AMJG
designator U?
JFET-Input Low Power High Drive Dual Operational Amplifier, 7 to 36 V, -55 to 125 degC, 8-pin DIP (JG8); Manufacturer: Texas Instruments; PartNumber: TLE2062AMJG; CMRR(Min)(dB): 65; GBW(Typ)(MHz): 1.8; IIB(Max)(pA): 30000; Iq per channel(Max)(mA): 0.31; Number of Channels: 2; Offset Drift(Typ)(uV/C): 6; Packing: TUBE; Rating: Military; Slew Rate(Typ)(V/us): 3.4; Sub Family: High Supply Voltage Amplifier (>=30V), Low Power Amp (<=500uA), Precision Amplifier; Total Supply Voltage(Max)(+5V is 5, +/-5V is 10): 36; Total Supply Voltage(Min)(+5V is 5, +/-5V is 10): 7; Vio (25C)(Max)(mV): 4; DatasheetVersion: SLOS193B; PackageVersion: 4040107/C, 08/1996; PackageReference: JG8; PackageDescription: 8-Pin Ceramic, Glass In-Line, Body 9.58 x 6.665 mm, Pitch 2.54 mm; Mounting Technology: Through Hole; ComponentLink1Description: Manufacturer URL; ComponentLink1URL: http://www.ti.com/; ComponentLink2Description: Datasheet; ComponentLink2URL: http://www.ti.com/lit/ds/symlink/tle2062am.pdf; ComponentLink3Description: Package Specification; ComponentLink3URL: http://www.ti.com/litv/pdf/mcer001a
footprint TI-JG8 (DIP, 8-Leads, Body 10.15x7.1mm, Pitch 2.54mm)
pins on every part: 4 VCC- (power), 8 VCC+ (power)
part A pins: 1 OUT1 (out), 2 IN1- (in), 3 IN1+ (in)
part B pins: 5 IN2+ (in), 6 IN2- (in), 7 OUT2 (out)

## TLE2062AMJGB
designator U?
JFET-Input Low Power High Drive Dual Operational Amplifier, 7 to 36 V, -55 to 125 degC, 8-pin DIP (JG8); Manufacturer: Texas Instruments; PartNumber: TLE2062AMJGB; CMRR(Min)(dB): 65; GBW(Typ)(MHz): 1.8; IIB(Max)(pA): 30000; Iq per channel(Max)(mA): 0.31; Number of Channels: 2; Offset Drift(Typ)(uV/C): 6; Packing: TUBE; Rating: Military; Slew Rate(Typ)(V/us): 3.4; Sub Family: High Supply Voltage Amplifier (>=30V), Low Power Amp (<=500uA), Precision Amplifier; Total Supply Voltage(Max)(+5V is 5, +/-5V is 10): 36; Total Supply Voltage(Min)(+5V is 5, +/-5V is 10): 7; Vio (25C)(Max)(mV): 4; DatasheetVersion: SLOS193B; PackageVersion: 4040107/C, 08/1996; PackageReference: JG8; PackageDescription: 8-Pin Ceramic, Glass In-Line, Body 9.58 x 6.665 mm, Pitch 2.54 mm; Mounting Technology: Through Hole; ComponentLink1Description: Manufacturer URL; ComponentLink1URL: http://www.ti.com/; ComponentLink2Description: Datasheet; ComponentLink2URL: http://www.ti.com/lit/ds/symlink/tle2062am.pdf; ComponentLink3Description: Package Specification; ComponentLink3URL: http://www.ti.com/litv/pdf/mcer001a
footprint TI-JG8 (DIP, 8-Leads, Body 10.15x7.1mm, Pitch 2.54mm)
pins on every part: 4 VCC- (power), 8 VCC+ (power)
part A pins: 1 OUT1 (out), 2 IN1- (in), 3 IN1+ (in)
part B pins: 5 IN2+ (in), 6 IN2- (in), 7 OUT2 (out)

## TLE2062BMJG
designator U?
JFET-Input Low Power High Drive Dual Operational Amplifier, 7 to 36 V, -55 to 125 degC, 8-pin DIP (JG8); Manufacturer: Texas Instruments; PartNumber: TLE2062BMJG; CMRR(Min)(dB): 65; GBW(Typ)(MHz): 1.8; IIB(Max)(pA): 30000; Iq per channel(Max)(mA): 0.31; Number of Channels: 2; Offset Drift(Typ)(uV/C): 6; Packing: TUBE; Rating: Military; Slew Rate(Typ)(V/us): 3.4; Sub Family: High Supply Voltage Amplifier (>=30V), Low Power Amp (<=500uA), Precision Amplifier; Total Supply Voltage(Max)(+5V is 5, +/-5V is 10): 36; Total Supply Voltage(Min)(+5V is 5, +/-5V is 10): 7; Vio (25C)(Max)(mV): 3; DatasheetVersion: SLOS193B; PackageVersion: 4040107/C, 08/1996; PackageReference: JG8; PackageDescription: 8-Pin Ceramic, Glass In-Line, Body 9.58 x 6.665 mm, Pitch 2.54 mm; Mounting Technology: Through Hole; ComponentLink1Description: Manufacturer URL; ComponentLink1URL: http://www.ti.com/; ComponentLink2Description: Datasheet; ComponentLink2URL: http://www.ti.com/lit/ds/symlink/tle2062bm.pdf; ComponentLink3Description: Package Specification; ComponentLink3URL: http://www.ti.com/litv/pdf/mcer001a
footprint TI-JG8 (DIP, 8-Leads, Body 10.15x7.1mm, Pitch 2.54mm)
pins on every part: 4 VCC- (power), 8 VCC+ (power)
part A pins: 1 OUT1 (out), 2 IN1- (in), 3 IN1+ (in)
part B pins: 5 IN2+ (in), 6 IN2- (in), 7 OUT2 (out)

## TLE2062BMJGB
designator U?
JFET-Input Low Power High Drive Dual Operational Amplifier, 7 to 36 V, -55 to 125 degC, 8-pin DIP (JG8); Manufacturer: Texas Instruments; PartNumber: TLE2062BMJGB; CMRR(Min)(dB): 65; GBW(Typ)(MHz): 1.8; IIB(Max)(pA): 30000; Iq per channel(Max)(mA): 0.31; Number of Channels: 2; Offset Drift(Typ)(uV/C): 6; Packing: TUBE; Rating: Military; Slew Rate(Typ)(V/us): 3.4; Sub Family: High Supply Voltage Amplifier (>=30V), Low Power Amp (<=500uA), Precision Amplifier; Total Supply Voltage(Max)(+5V is 5, +/-5V is 10): 36; Total Supply Voltage(Min)(+5V is 5, +/-5V is 10): 7; Vio (25C)(Max)(mV): 3; DatasheetVersion: SLOS193B; PackageVersion: 4040107/C, 08/1996; PackageReference: JG8; PackageDescription: 8-Pin Ceramic, Glass In-Line, Body 9.58 x 6.665 mm, Pitch 2.54 mm; Mounting Technology: Through Hole; ComponentLink1Description: Manufacturer URL; ComponentLink1URL: http://www.ti.com/; ComponentLink2Description: Datasheet; ComponentLink2URL: http://www.ti.com/lit/ds/symlink/tle2062bm.pdf; ComponentLink3Description: Package Specification; ComponentLink3URL: http://www.ti.com/litv/pdf/mcer001a
footprint TI-JG8 (DIP, 8-Leads, Body 10.15x7.1mm, Pitch 2.54mm)
pins on every part: 4 VCC- (power), 8 VCC+ (power)
part A pins: 1 OUT1 (out), 2 IN1- (in), 3 IN1+ (in)
part B pins: 5 IN2+ (in), 6 IN2- (in), 7 OUT2 (out)

## TLE2062CD
designator U?
Dual JFET-Input High-Output-Drive uPower Operational Amplifier, 7 to 36 V, 0 to 70 degC, 8-pin SOIC (D8), Green (RoHS & no Sb/Br); Manufacturer: Texas Instruments; PartNumber: TLE2062CD; CMRR(Min)(dB): 65; GBW(Typ)(MHz): 1.8; IIB(Max)(pA): 2000; Iq per channel(Max)(mA): 0.31; Number of Channels: 2; Offset Drift(Typ)(uV/C): 6; Packing: TUBE; Rating: Catalog; Slew Rate(Typ)(V/us): 3.4; Sub Family: High Supply Voltage Amplifier (>=30V), Low Power Amp (<=500uA), Precision Amplifier; Total Supply Voltage(Max)(+5V is 5, +/-5V is 10): 36; Total Supply Voltage(Min)(+5V is 5, +/-5V is 10): 7; Vio (25C)(Max)(mV): 5; DatasheetVersion: SLOS193B; PackageVersion: 4040047-3/M, 06/2011; PackageReference: D8; PackageDescription: 8-Pin Plastic Small Outline, Body 4.9 x 3.9 mm, Pitch 1.27 mm; Supplier 1: Digi-Key; Supplier Part Number 1: 296-1341-5-ND; Supplier 2: Newark; Supplier Part Number 2: 72K9577; Supplier 3: Mouser; Supplier Part Number 3: 595-TLE2062CD; Eco-Plan: Green (RoHS & no Sb/Br); Mounting Technology: Surface Mount; Code_JEDEC: MS-012; ComponentLink1Description: Manufacturer URL; ComponentLink1URL: http://www.ti.com/; ComponentLink2Description: Datasheet; ComponentLink2URL: http://www.ti.com/lit/ds/symlink/tle2062.pdf; ComponentLink3Description: Package Specification; ComponentLink3URL: http://www.ti.com/litv/pdf/msoi002j
footprint TI-D8_N (SOIC, 8-Leads, Body 4.9x3.9mm, Pitch 1.27mm, IPC Medium Density)
footprint TI-D8_L (SOIC, 8-Leads, Body 4.9x3.9mm, Pitch 1.27mm, IPC High Density)
footprint TI-D8_M (SOIC, 8-Leads, Body 4.9x3.9mm, Pitch 1.27mm, IPC Low Density)
pins on every part: 4 VCC- (power), 8 VCC+ (power)
part A pins: 1 OUT1 (out), 2 IN1- (in), 3 IN1+ (in)
part B pins: 5 IN2+ (in), 6 IN2- (in), 7 OUT2 (out)

## TLE2062CDG4
designator U?
Dual JFET-Input High-Output-Drive uPower Operational Amplifier, 7 to 36 V, 0 to 70 degC, 8-pin SOIC (D8), Green (RoHS & no Sb/Br); Manufacturer: Texas Instruments; PartNumber: TLE2062CDG4; CMRR(Min)(dB): 65; GBW(Typ)(MHz): 1.8; IIB(Max)(pA): 2000; Iq per channel(Max)(mA): 0.31; Number of Channels: 2; Offset Drift(Typ)(uV/C): 6; Packing: TUBE; Rating: Catalog; Slew Rate(Typ)(V/us): 3.4; Sub Family: High Supply Voltage Amplifier (>=30V), Low Power Amp (<=500uA), Precision Amplifier; Total Supply Voltage(Max)(+5V is 5, +/-5V is 10): 36; Total Supply Voltage(Min)(+5V is 5, +/-5V is 10): 7; Vio (25C)(Max)(mV): 5; DatasheetVersion: SLOS193B; PackageVersion: 4040047-3/M, 06/2011; PackageReference: D8; PackageDescription: 8-Pin Plastic Small Outline, Body 4.9 x 3.9 mm, Pitch 1.27 mm; Supplier 1: Digi-Key; Supplier Part Number 1: TLE2062CDG4-ND; Supplier 2: Farnell; Supplier Part Number 2: 1234649; Supplier 3: Newark; Supplier Part Number 3: 54K1074; Supplier 4: Mouser; Supplier Part Number 4: 595-TLE2062CDG4; Eco-Plan: Green (RoHS & no Sb/Br); Mounting Technology: Surface Mount; Code_JEDEC: MS-012; ComponentLink1Description: Manufacturer URL; ComponentLink1URL: http://www.ti.com/; ComponentLink2Description: Datasheet; ComponentLink2URL: http://www.ti.com/lit/ds/symlink/tle2062.pdf; ComponentLink3Description: Package Specification; ComponentLink3URL: http://www.ti.com/litv/pdf/msoi002j
footprint TI-D8_N (SOIC, 8-Leads, Body 4.9x3.9mm, Pitch 1.27mm, IPC Medium Density)
footprint TI-D8_L (SOIC, 8-Leads, Body 4.9x3.9mm, Pitch 1.27mm, IPC High Density)
footprint TI-D8_M (SOIC, 8-Leads, Body 4.9x3.9mm, Pitch 1.27mm, IPC Low Density)
pins on every part: 4 VCC- (power), 8 VCC+ (power)
part A pins: 1 OUT1 (out), 2 IN1- (in), 3 IN1+ (in)
part B pins: 5 IN2+ (in), 6 IN2- (in), 7 OUT2 (out)

## TLE2062CDR
designator U?
Dual JFET-Input High-Output-Drive uPower Operational Amplifier, 7 to 36 V, 0 to 70 degC, 8-pin SOIC (D8), Green (RoHS & no Sb/Br); Manufacturer: Texas Instruments; PartNumber: TLE2062CDR; CMRR(Min)(dB): 65; GBW(Typ)(MHz): 1.8; IIB(Max)(pA): 2000; Iq per channel(Max)(mA): 0.31; Number of Channels: 2; Offset Drift(Typ)(uV/C): 6; Packing: LARGE T&R; Rating: Catalog; Slew Rate(Typ)(V/us): 3.4; Sub Family: High Supply Voltage Amplifier (>=30V), Low Power Amp (<=500uA), Precision Amplifier; Total Supply Voltage(Max)(+5V is 5, +/-5V is 10): 36; Total Supply Voltage(Min)(+5V is 5, +/-5V is 10): 7; Vio (25C)(Max)(mV): 5; DatasheetVersion: SLOS193B; PackageVersion: 4040047-3/M, 06/2011; PackageReference: D8; PackageDescription: 8-Pin Plastic Small Outline, Body 4.9 x 3.9 mm, Pitch 1.27 mm; Supplier 1: Digi-Key; Supplier Part Number 1: 296-1341-2-ND; Supplier 2: Digi-Key; Supplier Part Number 2: 296-1341-1-ND; Supplier 3: Digi-Key; Supplier Part Number 3: 296-1341-6-ND; Supplier 4: Farnell; Supplier Part Number 4: 4576883; Supplier 5: Newark; Supplier Part Number 5: 90B2859; Supplier 6: Mouser; Supplier Part Number 6: 595-TLE2062CDR; Eco-Plan: Green (RoHS & no Sb/Br); Mounting Technology: Surface Mount; Code_JEDEC: MS-012; ComponentLink1Description: Manufacturer URL; ComponentLink1URL: http://www.ti.com/; ComponentLink2Description: Datasheet; ComponentLink2URL: http://www.ti.com/lit/ds/symlink/tle2062.pdf; ComponentLink3Description: Package Specification; ComponentLink3URL: http://www.ti.com/litv/pdf/msoi002j
footprint TI-D8_N (SOIC, 8-Leads, Body 4.9x3.9mm, Pitch 1.27mm, IPC Medium Density)
footprint TI-D8_L (SOIC, 8-Leads, Body 4.9x3.9mm, Pitch 1.27mm, IPC High Density)
footprint TI-D8_M (SOIC, 8-Leads, Body 4.9x3.9mm, Pitch 1.27mm, IPC Low Density)
pins on every part: 4 VCC- (power), 8 VCC+ (power)
part A pins: 1 OUT1 (out), 2 IN1- (in), 3 IN1+ (in)
part B pins: 5 IN2+ (in), 6 IN2- (in), 7 OUT2 (out)

## TLE2062CDRG4
designator U?
Dual JFET-Input High-Output-Drive uPower Operational Amplifier, 7 to 36 V, 0 to 70 degC, 8-pin SOIC (D8), Green (RoHS & no Sb/Br); Manufacturer: Texas Instruments; PartNumber: TLE2062CDRG4; CMRR(Min)(dB): 65; GBW(Typ)(MHz): 1.8; IIB(Max)(pA): 2000; Iq per channel(Max)(mA): 0.31; Number of Channels: 2; Offset Drift(Typ)(uV/C): 6; Packing: LARGE T&R; Rating: Catalog; Slew Rate(Typ)(V/us): 3.4; Sub Family: High Supply Voltage Amplifier (>=30V), Low Power Amp (<=500uA), Precision Amplifier; Total Supply Voltage(Max)(+5V is 5, +/-5V is 10): 36; Total Supply Voltage(Min)(+5V is 5, +/-5V is 10): 7; Vio (25C)(Max)(mV): 5; DatasheetVersion: SLOS193B; PackageVersion: 4040047-3/M, 06/2011; PackageReference: D8; PackageDescription: 8-Pin Plastic Small Outline, Body 4.9 x 3.9 mm, Pitch 1.27 mm; Supplier 1: Digi-Key; Supplier Part Number 1: TLE2062CDRG4-ND; Supplier 2: Mouser; Supplier Part Number 2: 595-TLE2062CDRG4; Eco-Plan: Green (RoHS & no Sb/Br); Mounting Technology: Surface Mount; Code_JEDEC: MS-012; ComponentLink1Description: Manufacturer URL; ComponentLink1URL: http://www.ti.com/; ComponentLink2Description: Datasheet; ComponentLink2URL: http://www.ti.com/lit/ds/symlink/tle2062.pdf; ComponentLink3Description: Package Specification; ComponentLink3URL: http://www.ti.com/litv/pdf/msoi002j
footprint TI-D8_N (SOIC, 8-Leads, Body 4.9x3.9mm, Pitch 1.27mm, IPC Medium Density)
footprint TI-D8_L (SOIC, 8-Leads, Body 4.9x3.9mm, Pitch 1.27mm, IPC High Density)
footprint TI-D8_M (SOIC, 8-Leads, Body 4.9x3.9mm, Pitch 1.27mm, IPC Low Density)
pins on every part: 4 VCC- (power), 8 VCC+ (power)
part A pins: 1 OUT1 (out), 2 IN1- (in), 3 IN1+ (in)
part B pins: 5 IN2+ (in), 6 IN2- (in), 7 OUT2 (out)

## TLE2062CP
designator U?
Dual JFET-Input High-Output-Drive uPower Operational Amplifier, 7 to 36 V, 0 to 70 degC, 8-pin DIP (P8), Pb-Free (RoHS); Manufacturer: Texas Instruments; PartNumber: TLE2062CP; CMRR(Min)(dB): 65; GBW(Typ)(MHz): 1.8; IIB(Max)(pA): 2000; Iq per channel(Max)(mA): 0.31; Number of Channels: 2; Offset Drift(Typ)(uV/C): 6; Packing: TUBE; Rating: Catalog; Slew Rate(Typ)(V/us): 3.4; Sub Family: High Supply Voltage Amplifier (>=30V), Low Power Amp (<=500uA), Precision Amplifier; Total Supply Voltage(Max)(+5V is 5, +/-5V is 10): 36; Total Supply Voltage(Min)(+5V is 5, +/-5V is 10): 7; Vio (25C)(Max)(mV): 5; DatasheetVersion: SLOS193B; PackageVersion: 4040082/E, 04/2010; PackageReference: P8; PackageDescription: 8-Pin Plastic In-Line, Body 9.59 x 6.35 mm, Pitch 2.54 mm; Supplier 1: Digi-Key; Supplier Part Number 1: 296-10401-5-ND; Supplier 2: Farnell; Supplier Part Number 2: 2112581; Supplier 3: Farnell; Supplier Part Number 3: 9862390; Supplier 4: Newark; Supplier Part Number 4: 36K3649; Supplier 5: Mouser; Supplier Part Number 5: 595-TLE2062CP; Eco-Plan: Pb-Free (RoHS); Mounting Technology: Through Hole; Code_JEDEC: MS-001; ComponentLink1Description: Manufacturer URL; ComponentLink1URL: http://www.ti.com/; ComponentLink2Description: Datasheet; ComponentLink2URL: http://www.ti.com/lit/ds/symlink/tle2062.pdf; ComponentLink3Description: Package Specification; ComponentLink3URL: http://www.ti.com/litv/pdf/mpdi001b
footprint TI-P8 (DIP, 8-Leads, Body 9.59x6.35mm, Pitch 2.54mm)
pins on every part: 4 VCC- (power), 8 VCC+ (power)
part A pins: 1 OUT1 (out), 2 IN1- (in), 3 IN1+ (in)
part B pins: 5 IN2+ (in), 6 IN2- (in), 7 OUT2 (out)

## TLE2062CPE4
designator U?
Dual JFET-Input High-Output-Drive uPower Operational Amplifier, 7 to 36 V, 0 to 70 degC, 8-pin DIP (P8), Pb-Free (RoHS); Manufacturer: Texas Instruments; PartNumber: TLE2062CPE4; CMRR(Min)(dB): 65; GBW(Typ)(MHz): 1.8; IIB(Max)(pA): 2000; Iq per channel(Max)(mA): 0.31; Number of Channels: 2; Offset Drift(Typ)(uV/C): 6; Packing: TUBE; Rating: Catalog; Slew Rate(Typ)(V/us): 3.4; Sub Family: High Supply Voltage Amplifier (>=30V), Low Power Amp (<=500uA), Precision Amplifier; Total Supply Voltage(Max)(+5V is 5, +/-5V is 10): 36; Total Supply Voltage(Min)(+5V is 5, +/-5V is 10): 7; Vio (25C)(Max)(mV): 5; DatasheetVersion: SLOS193B; PackageVersion: 4040082/E, 04/2010; PackageReference: P8; PackageDescription: 8-Pin Plastic In-Line, Body 9.59 x 6.35 mm, Pitch 2.54 mm; Supplier 1: Digi-Key; Supplier Part Number 1: TLE2062CPE4-ND; Supplier 2: Farnell; Supplier Part Number 2: 1234657; Supplier 3: Mouser; Supplier Part Number 3: 595-TLE2062CPE4; Eco-Plan: Pb-Free (RoHS); Mounting Technology: Through Hole; Code_JEDEC: MS-001; ComponentLink1Description: Manufacturer URL; ComponentLink1URL: http://www.ti.com/; ComponentLink2Description: Datasheet; ComponentLink2URL: http://www.ti.com/lit/ds/symlink/tle2062.pdf; ComponentLink3Description: Package Specification; ComponentLink3URL: http://www.ti.com/litv/pdf/mpdi001b
footprint TI-P8 (DIP, 8-Leads, Body 9.59x6.35mm, Pitch 2.54mm)
pins on every part: 4 VCC- (power), 8 VCC+ (power)
part A pins: 1 OUT1 (out), 2 IN1- (in), 3 IN1+ (in)
part B pins: 5 IN2+ (in), 6 IN2- (in), 7 OUT2 (out)

## TLE2062ID
designator U?
Dual JFET-Input High-Output-Drive uPower Operational Amplifier, 7 to 36 V, -40 to 85 degC, 8-pin SOIC (D8), Green (RoHS & no Sb/Br); Manufacturer: Texas Instruments; PartNumber: TLE2062ID; CMRR(Min)(dB): 65; GBW(Typ)(MHz): 1.8; IIB(Max)(pA): 4000; Iq per channel(Max)(mA): 0.31; Number of Channels: 2; Offset Drift(Typ)(uV/C): 6; Packing: TUBE; Rating: Catalog; Slew Rate(Typ)(V/us): 3.4; Sub Family: High Supply Voltage Amplifier (>=30V), Low Power Amp (<=500uA), Precision Amplifier; Total Supply Voltage(Max)(+5V is 5, +/-5V is 10): 36; Total Supply Voltage(Min)(+5V is 5, +/-5V is 10): 7; Vio (25C)(Max)(mV): 5; DatasheetVersion: SLOS193B; PackageVersion: 4040047-3/M, 06/2011; PackageReference: D8; PackageDescription: 8-Pin Plastic Small Outline, Body 4.9 x 3.9 mm, Pitch 1.27 mm; Supplier 1: Digi-Key; Supplier Part Number 1: 296-10402-5-ND; Supplier 2: Farnell; Supplier Part Number 2: 1102948; Supplier 3: Newark; Supplier Part Number 3: 24M8307; Supplier 4: Newark; Supplier Part Number 4: 76C7624; Supplier 5: Mouser; Supplier Part Number 5: 595-TLE2062ID; Eco-Plan: Green (RoHS & no Sb/Br); Mounting Technology: Surface Mount; Code_JEDEC: MS-012; ComponentLink1Description: Manufacturer URL; ComponentLink1URL: http://www.ti.com/; ComponentLink2Description: Datasheet; ComponentLink2URL: http://www.ti.com/lit/ds/symlink/tle2062.pdf; ComponentLink3Description: Package Specification; ComponentLink3URL: http://www.ti.com/litv/pdf/msoi002j
footprint TI-D8_N (SOIC, 8-Leads, Body 4.9x3.9mm, Pitch 1.27mm, IPC Medium Density)
footprint TI-D8_L (SOIC, 8-Leads, Body 4.9x3.9mm, Pitch 1.27mm, IPC High Density)
footprint TI-D8_M (SOIC, 8-Leads, Body 4.9x3.9mm, Pitch 1.27mm, IPC Low Density)
pins on every part: 4 VCC- (power), 8 VCC+ (power)
part A pins: 1 OUT1 (out), 2 IN1- (in), 3 IN1+ (in)
part B pins: 5 IN2+ (in), 6 IN2- (in), 7 OUT2 (out)

## TLE2062IDG4
designator U?
Dual JFET-Input High-Output-Drive uPower Operational Amplifier, 7 to 36 V, -40 to 85 degC, 8-pin SOIC (D8), Green (RoHS & no Sb/Br); Manufacturer: Texas Instruments; PartNumber: TLE2062IDG4; CMRR(Min)(dB): 65; GBW(Typ)(MHz): 1.8; IIB(Max)(pA): 4000; Iq per channel(Max)(mA): 0.31; Number of Channels: 2; Offset Drift(Typ)(uV/C): 6; Packing: TUBE; Rating: Catalog; Slew Rate(Typ)(V/us): 3.4; Sub Family: High Supply Voltage Amplifier (>=30V), Low Power Amp (<=500uA), Precision Amplifier; Total Supply Voltage(Max)(+5V is 5, +/-5V is 10): 36; Total Supply Voltage(Min)(+5V is 5, +/-5V is 10): 7; Vio (25C)(Max)(mV): 5; DatasheetVersion: SLOS193B; PackageVersion: 4040047-3/M, 06/2011; PackageReference: D8; PackageDescription: 8-Pin Plastic Small Outline, Body 4.9 x 3.9 mm, Pitch 1.27 mm; Supplier 1: Digi-Key; Supplier Part Number 1: 296-27977-5-ND; Supplier 2: Newark; Supplier Part Number 2: 54K1075; Supplier 3: Mouser; Supplier Part Number 3: 595-TLE2062IDG4; Eco-Plan: Green (RoHS & no Sb/Br); Mounting Technology: Surface Mount; Code_JEDEC: MS-012; ComponentLink1Description: Manufacturer URL; ComponentLink1URL: http://www.ti.com/; ComponentLink2Description: Datasheet; ComponentLink2URL: http://www.ti.com/lit/ds/symlink/tle2062.pdf; ComponentLink3Description: Package Specification; ComponentLink3URL: http://www.ti.com/litv/pdf/msoi002j
footprint TI-D8_N (SOIC, 8-Leads, Body 4.9x3.9mm, Pitch 1.27mm, IPC Medium Density)
footprint TI-D8_L (SOIC, 8-Leads, Body 4.9x3.9mm, Pitch 1.27mm, IPC High Density)
footprint TI-D8_M (SOIC, 8-Leads, Body 4.9x3.9mm, Pitch 1.27mm, IPC Low Density)
pins on every part: 4 VCC- (power), 8 VCC+ (power)
part A pins: 1 OUT1 (out), 2 IN1- (in), 3 IN1+ (in)
part B pins: 5 IN2+ (in), 6 IN2- (in), 7 OUT2 (out)